# Altium schematic symbol library WE-MK.SchLib: 204 symbols (part 2 of 4)
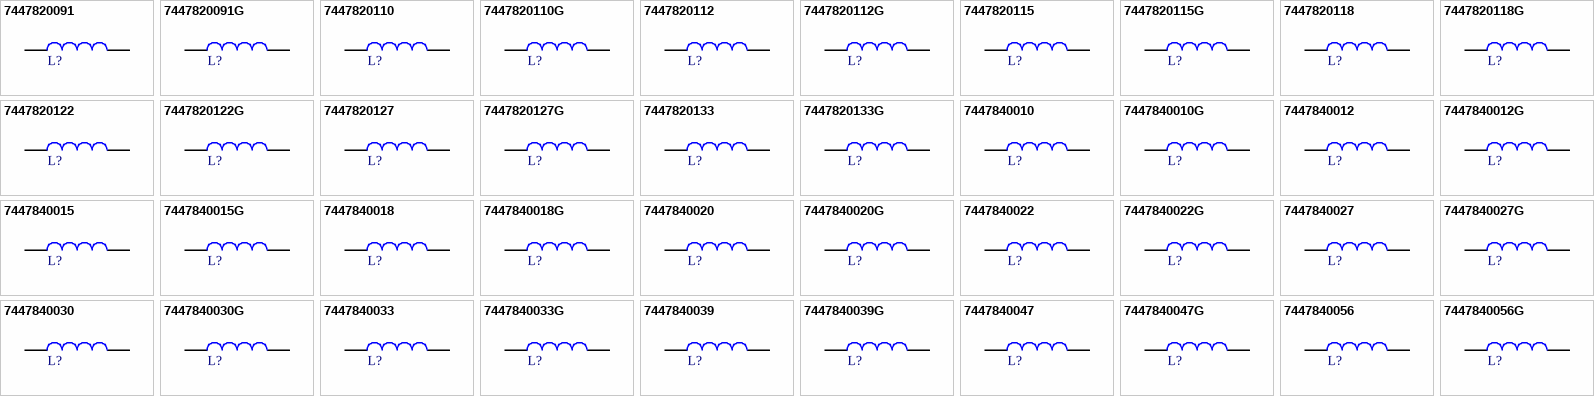
[diagram p6: symbols 7447820091 to 7447840056G]

## 7447820133G
designator L?, comment 33nH  (value not drawn)
WE-MK Multilayer Ceramic SMT Inductor, size 0201, 33nH, 0.11A, 1.5Ohm; Manufacturer Part Number: 7447820133G; Manufacturer: Wurth Elektronik; Case/Size Code: 0201; Inductance Tolerance: +/-2%; Q Factor: 4; Self Resonant Frequency: 1700MHz; Category: RF Inductors; Match Code: WE-MK; ComponentLink1Description: Website Link; ComponentLink1URL: https://www.we-online.com/redexpert/article/7447820133G?ad; ComponentLink2Description: Datasheet Link; ComponentLink2URL: https://www.we-online.com/redexpert/spec/7447820133G?ad; Mount: Surface Mount; Operating Temperature Max: 125°C; Operating Temperature Min: -55°C; Packaging: Tape and Reel; Length: 0.6mm; Width: 0.3mm; Height: 0.3mm; DC Resistance Max: 1.5Ohm; Inductance: 33nH; Rated Current: 0.11A
footprint WE-MK_0201_L0.6W0.3H0.3
simulation model 0201_7447820133G_33n
pins: 1, 2

## 7447840010
designator L?, comment 1nH  (value not drawn)
WE-MK Multilayer Ceramic SMT Inductor, size 0402, 1nH, 0.3A, 0.1Ohm; Manufacturer Part Number: 7447840010; Manufacturer: Wurth Elektronik; Case/Size Code: 0402; Inductance Tolerance: +/-0.3nH; Q Factor: 8; Self Resonant Frequency: 8000MHz; Category: RF Inductors; Match Code: WE-MK; ComponentLink1Description: Website Link; ComponentLink1URL: https://www.we-online.com/redexpert/article/7447840010?ad; ComponentLink2Description: Datasheet Link; ComponentLink2URL: https://www.we-online.com/redexpert/spec/7447840010?ad; Mount: Surface Mount; Operating Temperature Max: 125°C; Operating Temperature Min: -55°C; Packaging: Tape and Reel; Length: 1mm; Width: 0.5mm; Height: 0.5mm; DC Resistance Max: 0.1Ohm; Inductance: 1nH; Rated Current: 0.3A
footprint WE-MK_0402_L1W0.5H0.5
simulation model 0402_7447840010_1n
pins: 1, 2

## 7447840010G
designator L?, comment 1nH  (value not drawn)
WE-MK Multilayer Ceramic SMT Inductor, size 0402, 1nH, 0.3A, 0.1Ohm; Manufacturer Part Number: 7447840010G; Manufacturer: Wurth Elektronik; Case/Size Code: 0402; Inductance Tolerance: +/-0.1nH; Q Factor: 8; Self Resonant Frequency: 8000MHz; Category: RF Inductors; Match Code: WE-MK; ComponentLink1Description: Website Link; ComponentLink1URL: https://www.we-online.com/redexpert/article/7447840010G?ad; ComponentLink2Description: Datasheet Link; ComponentLink2URL: https://www.we-online.com/redexpert/spec/7447840010G?ad; Mount: Surface Mount; Operating Temperature Max: 125°C; Operating Temperature Min: -55°C; Packaging: Tape and Reel; Length: 1mm; Width: 0.5mm; Height: 0.5mm; DC Resistance Max: 0.1Ohm; Inductance: 1nH; Rated Current: 0.3A
footprint WE-MK_0402_L1W0.5H0.5
simulation model 0402_7447840010G_1n
pins: 1, 2

## 7447840012
designator L?, comment 1.2nH  (value not drawn)
WE-MK Multilayer Ceramic SMT Inductor, size 0402, 1.2nH, 0.3A, 0.1Ohm; Manufacturer Part Number: 7447840012; Manufacturer: Wurth Elektronik; Case/Size Code: 0402; Inductance Tolerance: +/-0.3nH; Q Factor: 8; Self Resonant Frequency: 8000MHz; Category: RF Inductors; Match Code: WE-MK; ComponentLink1Description: Website Link; ComponentLink1URL: https://www.we-online.com/redexpert/article/7447840012?ad; ComponentLink2Description: Datasheet Link; ComponentLink2URL: https://www.we-online.com/redexpert/spec/7447840012?ad; Mount: Surface Mount; Operating Temperature Max: 125°C; Operating Temperature Min: -55°C; Packaging: Tape and Reel; Length: 1mm; Width: 0.5mm; Height: 0.5mm; DC Resistance Max: 0.1Ohm; Inductance: 1.2nH; Rated Current: 0.3A
footprint WE-MK_0402_L1W0.5H0.5
simulation model 0402_7447840012_1.2n
pins: 1, 2

## 7447840012G
designator L?, comment 1.2nH  (value not drawn)
WE-MK Multilayer Ceramic SMT Inductor, size 0402, 1.2nH, 0.3A, 0.1Ohm; Manufacturer Part Number: 7447840012G; Manufacturer: Wurth Elektronik; Case/Size Code: 0402; Inductance Tolerance: +/-0.1nH; Q Factor: 8; Self Resonant Frequency: 8000MHz; Category: RF Inductors; Match Code: WE-MK; ComponentLink1Description: Website Link; ComponentLink1URL: https://www.we-online.com/redexpert/article/7447840012G?ad; ComponentLink2Description: Datasheet Link; ComponentLink2URL: https://www.we-online.com/redexpert/spec/7447840012G?ad; Mount: Surface Mount; Operating Temperature Max: 125°C; Operating Temperature Min: -55°C; Packaging: Tape and Reel; Length: 1mm; Width: 0.5mm; Height: 0.5mm; DC Resistance Max: 0.1Ohm; Inductance: 1.2nH; Rated Current: 0.3A
footprint WE-MK_0402_L1W0.5H0.5
simulation model 0402_7447840012G_1.2n
pins: 1, 2

## 7447840015
designator L?, comment 1.5nH  (value not drawn)
WE-MK Multilayer Ceramic SMT Inductor, size 0402, 1.5nH, 0.3A, 0.1Ohm; Manufacturer Part Number: 7447840015; Manufacturer: Wurth Elektronik; Case/Size Code: 0402; Inductance Tolerance: +/-0.3nH; Q Factor: 8; Self Resonant Frequency: 8000MHz; Category: RF Inductors; Match Code: WE-MK; ComponentLink1Description: Website Link; ComponentLink1URL: https://www.we-online.com/redexpert/article/7447840015?ad; ComponentLink2Description: Datasheet Link; ComponentLink2URL: https://www.we-online.com/redexpert/spec/7447840015?ad; Mount: Surface Mount; Operating Temperature Max: 125°C; Operating Temperature Min: -55°C; Packaging: Tape and Reel; Length: 1mm; Width: 0.5mm; Height: 0.5mm; DC Resistance Max: 0.1Ohm; Inductance: 1.5nH; Rated Current: 0.3A
footprint WE-MK_0402_L1W0.5H0.5
simulation model 0402_7447840015_1.5n
pins: 1, 2

## 7447840015G
designator L?, comment 1.5nH  (value not drawn)
WE-MK Multilayer Ceramic SMT Inductor, size 0402, 1.5nH, 0.3A, 0.1Ohm; Manufacturer Part Number: 7447840015G; Manufacturer: Wurth Elektronik; Case/Size Code: 0402; Inductance Tolerance: +/-0.1nH; Q Factor: 8; Self Resonant Frequency: 8000MHz; Category: RF Inductors; Match Code: WE-MK; ComponentLink1Description: Website Link; ComponentLink1URL: https://www.we-online.com/redexpert/article/7447840015G?ad; ComponentLink2Description: Datasheet Link; ComponentLink2URL: https://www.we-online.com/redexpert/spec/7447840015G?ad; Mount: Surface Mount; Operating Temperature Max: 125°C; Operating Temperature Min: -55°C; Packaging: Tape and Reel; Length: 1mm; Width: 0.5mm; Height: 0.5mm; DC Resistance Max: 0.1Ohm; Inductance: 1.5nH; Rated Current: 0.3A
footprint WE-MK_0402_L1W0.5H0.5
simulation model 0402_7447840015G_1.5n
pins: 1, 2

## 7447840018
designator L?, comment 1.8nH  (value not drawn)
WE-MK Multilayer Ceramic SMT Inductor, size 0402, 1.8nH, 0.3A, 0.1Ohm; Manufacturer Part Number: 7447840018; Manufacturer: Wurth Elektronik; Case/Size Code: 0402; Inductance Tolerance: +/-0.3nH; Q Factor: 8; Self Resonant Frequency: 6000MHz; Category: RF Inductors; Match Code: WE-MK; ComponentLink1Description: Website Link; ComponentLink1URL: https://www.we-online.com/redexpert/article/7447840018?ad; ComponentLink2Description: Datasheet Link; ComponentLink2URL: https://www.we-online.com/redexpert/spec/7447840018?ad; Mount: Surface Mount; Operating Temperature Max: 125°C; Operating Temperature Min: -55°C; Packaging: Tape and Reel; Length: 1mm; Width: 0.5mm; Height: 0.5mm; DC Resistance Max: 0.1Ohm; Inductance: 1.8nH; Rated Current: 0.3A
footprint WE-MK_0402_L1W0.5H0.5
simulation model 0402_7447840018_1.8n
pins: 1, 2

## 7447840018G
designator L?, comment 1.8nH  (value not drawn)
WE-MK Multilayer Ceramic SMT Inductor, size 0402, 1.8nH, 0.3A, 0.1Ohm; Manufacturer Part Number: 7447840018G; Manufacturer: Wurth Elektronik; Case/Size Code: 0402; Inductance Tolerance: +/-0.1nH; Q Factor: 8; Self Resonant Frequency: 6000MHz; Category: RF Inductors; Match Code: WE-MK; ComponentLink1Description: Website Link; ComponentLink1URL: https://www.we-online.com/redexpert/article/7447840018G?ad; ComponentLink2Description: Datasheet Link; ComponentLink2URL: https://www.we-online.com/redexpert/spec/7447840018G?ad; Mount: Surface Mount; Operating Temperature Max: 125°C; Operating Temperature Min: -55°C; Packaging: Tape and Reel; Length: 1mm; Width: 0.5mm; Height: 0.5mm; DC Resistance Max: 0.1Ohm; Inductance: 1.8nH; Rated Current: 0.3A
footprint WE-MK_0402_L1W0.5H0.5
simulation model 0402_7447840018G_1.8n
pins: 1, 2

## 7447840020
designator L?, comment 2nH  (value not drawn)
WE-MK Multilayer Ceramic SMT Inductor, size 0402, 2nH, 0.3A, 0.12Ohm; Manufacturer Part Number: 7447840020; Manufacturer: Wurth Elektronik; Case/Size Code: 0402; Inductance Tolerance: +/-0.3nH; Q Factor: 8; Self Resonant Frequency: 6000MHz; Category: RF Inductors; Match Code: WE-MK; ComponentLink1Description: Website Link; ComponentLink1URL: https://www.we-online.com/redexpert/article/7447840020?ad; ComponentLink2Description: Datasheet Link; ComponentLink2URL: https://www.we-online.com/redexpert/spec/7447840020?ad; Mount: Surface Mount; Operating Temperature Max: 125°C; Operating Temperature Min: -55°C; Packaging: Tape and Reel; Length: 1mm; Width: 0.5mm; Height: 0.5mm; DC Resistance Max: 0.12Ohm; Inductance: 2nH; Rated Current: 0.3A
footprint WE-MK_0402_L1W0.5H0.5
simulation model 0402_7447840020_2n
pins: 1, 2

## 7447840020G
designator L?, comment 2nH  (value not drawn)
WE-MK Multilayer Ceramic SMT Inductor, size 0402, 2nH, 0.3A, 0.12Ohm; Manufacturer Part Number: 7447840020G; Manufacturer: Wurth Elektronik; Case/Size Code: 0402; Inductance Tolerance: +/-0.1nH; Q Factor: 8; Self Resonant Frequency: 6000MHz; Category: RF Inductors; Match Code: WE-MK; ComponentLink1Description: Website Link; ComponentLink1URL: https://www.we-online.com/redexpert/article/7447840020G?ad; ComponentLink2Description: Datasheet Link; ComponentLink2URL: https://www.we-online.com/redexpert/spec/7447840020G?ad; Mount: Surface Mount; Operating Temperature Max: 125°C; Operating Temperature Min: -55°C; Packaging: Tape and Reel; Length: 1mm; Width: 0.5mm; Height: 0.5mm; DC Resistance Max: 0.12Ohm; Inductance: 2nH; Rated Current: 0.3A
footprint WE-MK_0402_L1W0.5H0.5
simulation model 0402_7447840020G_2n
pins: 1, 2

## 7447840022
designator L?, comment 2.2nH  (value not drawn)
WE-MK Multilayer Ceramic SMT Inductor, size 0402, 2.2nH, 0.3A, 0.15Ohm; Manufacturer Part Number: 7447840022; Manufacturer: Wurth Elektronik; Case/Size Code: 0402; Inductance Tolerance: +/-0.3nH; Q Factor: 8; Self Resonant Frequency: 6000MHz; Category: RF Inductors; Match Code: WE-MK; ComponentLink1Description: Website Link; ComponentLink1URL: https://www.we-online.com/redexpert/article/7447840022?ad; ComponentLink2Description: Datasheet Link; ComponentLink2URL: https://www.we-online.com/redexpert/spec/7447840022?ad; Mount: Surface Mount; Operating Temperature Max: 125°C; Operating Temperature Min: -55°C; Packaging: Tape and Reel; Length: 1mm; Width: 0.5mm; Height: 0.5mm; DC Resistance Max: 0.15Ohm; Inductance: 2.2nH; Rated Current: 0.3A
footprint WE-MK_0402_L1W0.5H0.5
simulation model 0402_7447840022_2.2n
pins: 1, 2

## 7447840022G
designator L?, comment 2.2nH  (value not drawn)
WE-MK Multilayer Ceramic SMT Inductor, size 0402, 2.2nH, 0.3A, 0.15Ohm; Manufacturer Part Number: 7447840022G; Manufacturer: Wurth Elektronik; Case/Size Code: 0402; Inductance Tolerance: +/-0.1nH; Q Factor: 8; Self Resonant Frequency: 6000MHz; Category: RF Inductors; Match Code: WE-MK; ComponentLink1Description: Website Link; ComponentLink1URL: https://www.we-online.com/redexpert/article/7447840022G?ad; ComponentLink2Description: Datasheet Link; ComponentLink2URL: https://www.we-online.com/redexpert/spec/7447840022G?ad; Mount: Surface Mount; Operating Temperature Max: 125°C; Operating Temperature Min: -55°C; Packaging: Tape and Reel; Length: 1mm; Width: 0.5mm; Height: 0.5mm; DC Resistance Max: 0.15Ohm; Inductance: 2.2nH; Rated Current: 0.3A
footprint WE-MK_0402_L1W0.5H0.5
simulation model 0402_7447840022G_2.2n
pins: 1, 2

## 7447840027
designator L?, comment 2.7nH  (value not drawn)
WE-MK Multilayer Ceramic SMT Inductor, size 0402, 2.7nH, 0.3A, 0.17Ohm; Manufacturer Part Number: 7447840027; Manufacturer: Wurth Elektronik; Case/Size Code: 0402; Inductance Tolerance: +/-0.3nH; Q Factor: 8; Self Resonant Frequency: 6000MHz; Category: RF Inductors; Match Code: WE-MK; ComponentLink1Description: Website Link; ComponentLink1URL: https://www.we-online.com/redexpert/article/7447840027?ad; ComponentLink2Description: Datasheet Link; ComponentLink2URL: https://www.we-online.com/redexpert/spec/7447840027?ad; Mount: Surface Mount; Operating Temperature Max: 125°C; Operating Temperature Min: -55°C; Packaging: Tape and Reel; Length: 1mm; Width: 0.5mm; Height: 0.5mm; DC Resistance Max: 0.17Ohm; Inductance: 2.7nH; Rated Current: 0.3A
footprint WE-MK_0402_L1W0.5H0.5
simulation model 0402_7447840027_2.7n
pins: 1, 2

## 7447840027G
designator L?, comment 2.7nH  (value not drawn)
WE-MK Multilayer Ceramic SMT Inductor, size 0402, 2.7nH, 0.3A, 0.17Ohm; Manufacturer Part Number: 7447840027G; Manufacturer: Wurth Elektronik; Case/Size Code: 0402; Inductance Tolerance: +/-0.1nH; Q Factor: 8; Self Resonant Frequency: 6000MHz; Category: RF Inductors; Match Code: WE-MK; ComponentLink1Description: Website Link; ComponentLink1URL: https://www.we-online.com/redexpert/article/7447840027G?ad; ComponentLink2Description: Datasheet Link; ComponentLink2URL: https://www.we-online.com/redexpert/spec/7447840027G?ad; Mount: Surface Mount; Operating Temperature Max: 125°C; Operating Temperature Min: -55°C; Packaging: Tape and Reel; Length: 1mm; Width: 0.5mm; Height: 0.5mm; DC Resistance Max: 0.17Ohm; Inductance: 2.7nH; Rated Current: 0.3A
footprint WE-MK_0402_L1W0.5H0.5
simulation model 0402_7447840027G_2.7n
pins: 1, 2

## 7447840030
designator L?, comment 3nH  (value not drawn)
WE-MK Multilayer Ceramic SMT Inductor, size 0402, 3nH, 0.3A, 0.18Ohm; Manufacturer Part Number: 7447840030; Manufacturer: Wurth Elektronik; Case/Size Code: 0402; Inductance Tolerance: +/-0.3nH; Q Factor: 8; Self Resonant Frequency: 6000MHz; Category: RF Inductors; Match Code: WE-MK; ComponentLink1Description: Website Link; ComponentLink1URL: https://www.we-online.com/redexpert/article/7447840030?ad; ComponentLink2Description: Datasheet Link; ComponentLink2URL: https://www.we-online.com/redexpert/spec/7447840030?ad; Mount: Surface Mount; Operating Temperature Max: 125°C; Operating Temperature Min: -55°C; Packaging: Tape and Reel; Length: 1mm; Width: 0.5mm; Height: 0.5mm; DC Resistance Max: 0.18Ohm; Inductance: 3nH; Rated Current: 0.3A
footprint WE-MK_0402_L1W0.5H0.5
simulation model 0402_7447840030_3n
pins: 1, 2

## 7447840030G
designator L?, comment 3nH  (value not drawn)
WE-MK Multilayer Ceramic SMT Inductor, size 0402, 3nH, 0.3A, 0.18Ohm; Manufacturer Part Number: 7447840030G; Manufacturer: Wurth Elektronik; Case/Size Code: 0402; Inductance Tolerance: +/-0.1nH; Q Factor: 8; Self Resonant Frequency: 6000MHz; Category: RF Inductors; Match Code: WE-MK; ComponentLink1Description: Website Link; ComponentLink1URL: https://www.we-online.com/redexpert/article/7447840030G?ad; ComponentLink2Description: Datasheet Link; ComponentLink2URL: https://www.we-online.com/redexpert/spec/7447840030G?ad; Mount: Surface Mount; Operating Temperature Max: 125°C; Operating Temperature Min: -55°C; Packaging: Tape and Reel; Length: 1mm; Width: 0.5mm; Height: 0.5mm; DC Resistance Max: 0.18Ohm; Inductance: 3nH; Rated Current: 0.3A
footprint WE-MK_0402_L1W0.5H0.5
simulation model 0402_7447840030G_3n
pins: 1, 2

## 7447840033
designator L?, comment 3.3nH  (value not drawn)
WE-MK Multilayer Ceramic SMT Inductor, size 0402, 3.3nH, 0.3A, 0.19Ohm; Manufacturer Part Number: 7447840033; Manufacturer: Wurth Elektronik; Case/Size Code: 0402; Inductance Tolerance: +/-0.3nH; Q Factor: 8; Self Resonant Frequency: 6000MHz; Category: RF Inductors; Match Code: WE-MK; ComponentLink1Description: Website Link; ComponentLink1URL: https://www.we-online.com/redexpert/article/7447840033?ad; ComponentLink2Description: Datasheet Link; ComponentLink2URL: https://www.we-online.com/redexpert/spec/7447840033?ad; Mount: Surface Mount; Operating Temperature Max: 125°C; Operating Temperature Min: -55°C; Packaging: Tape and Reel; Length: 1mm; Width: 0.5mm; Height: 0.5mm; DC Resistance Max: 0.19Ohm; Inductance: 3.3nH; Rated Current: 0.3A
footprint WE-MK_0402_L1W0.5H0.5
simulation model 0402_7447840033_3.3n
pins: 1, 2

## 7447840033G
designator L?, comment 3.3nH  (value not drawn)
WE-MK Multilayer Ceramic SMT Inductor, size 0402, 3.3nH, 0.3A, 0.19Ohm; Manufacturer Part Number: 7447840033G; Manufacturer: Wurth Elektronik; Case/Size Code: 0402; Inductance Tolerance: +/-0.1nH; Q Factor: 8; Self Resonant Frequency: 6000MHz; Category: RF Inductors; Match Code: WE-MK; ComponentLink1Description: Website Link; ComponentLink1URL: https://www.we-online.com/redexpert/article/7447840033G?ad; ComponentLink2Description: Datasheet Link; ComponentLink2URL: https://www.we-online.com/redexpert/spec/7447840033G?ad; Mount: Surface Mount; Operating Temperature Max: 125°C; Operating Temperature Min: -55°C; Packaging: Tape and Reel; Length: 1mm; Width: 0.5mm; Height: 0.5mm; DC Resistance Max: 0.19Ohm; Inductance: 3.3nH; Rated Current: 0.3A
footprint WE-MK_0402_L1W0.5H0.5
simulation model 0402_7447840033G_3.3n
pins: 1, 2

## 7447840039
designator L?, comment 3.9nH  (value not drawn)
WE-MK Multilayer Ceramic SMT Inductor, size 0402, 3.9nH, 0.3A, 0.19Ohm; Manufacturer Part Number: 7447840039; Manufacturer: Wurth Elektronik; Case/Size Code: 0402; Inductance Tolerance: +/-0.3nH; Q Factor: 8; Self Resonant Frequency: 6000MHz; Category: RF Inductors; Match Code: WE-MK; ComponentLink1Description: Website Link; ComponentLink1URL: https://www.we-online.com/redexpert/article/7447840039?ad; ComponentLink2Description: Datasheet Link; ComponentLink2URL: https://www.we-online.com/redexpert/spec/7447840039?ad; Mount: Surface Mount; Operating Temperature Max: 125°C; Operating Temperature Min: -55°C; Packaging: Tape and Reel; Length: 1mm; Width: 0.5mm; Height: 0.5mm; DC Resistance Max: 0.19Ohm; Inductance: 3.9nH; Rated Current: 0.3A
footprint WE-MK_0402_L1W0.5H0.5
simulation model 0402_7447840039_3.9n
pins: 1, 2

## 7447840039G
designator L?, comment 3.9nH  (value not drawn)
WE-MK Multilayer Ceramic SMT Inductor, size 0402, 3.9nH, 0.3A, 0.19Ohm; Manufacturer Part Number: 7447840039G; Manufacturer: Wurth Elektronik; Case/Size Code: 0402; Inductance Tolerance: +/-0.1nH; Q Factor: 8; Self Resonant Frequency: 6000MHz; Category: RF Inductors; Match Code: WE-MK; ComponentLink1Description: Website Link; ComponentLink1URL: https://www.we-online.com/redexpert/article/7447840039G?ad; ComponentLink2Description: Datasheet Link; ComponentLink2URL: https://www.we-online.com/redexpert/spec/7447840039G?ad; Mount: Surface Mount; Operating Temperature Max: 125°C; Operating Temperature Min: -55°C; Packaging: Tape and Reel; Length: 1mm; Width: 0.5mm; Height: 0.5mm; DC Resistance Max: 0.19Ohm; Inductance: 3.9nH; Rated Current: 0.3A
footprint WE-MK_0402_L1W0.5H0.5
simulation model 0402_7447840039G_3.9n
pins: 1, 2

## 7447840047
designator L?, comment 4.7nH  (value not drawn)
WE-MK Multilayer Ceramic SMT Inductor, size 0402, 4.7nH, 0.3A, 0.23Ohm; Manufacturer Part Number: 7447840047; Manufacturer: Wurth Elektronik; Case/Size Code: 0402; Inductance Tolerance: +/-0.3nH; Q Factor: 8; Self Resonant Frequency: 6000MHz; Category: RF Inductors; Match Code: WE-MK; ComponentLink1Description: Website Link; ComponentLink1URL: https://www.we-online.com/redexpert/article/7447840047?ad; ComponentLink2Description: Datasheet Link; ComponentLink2URL: https://www.we-online.com/redexpert/spec/7447840047?ad; Mount: Surface Mount; Operating Temperature Max: 125°C; Operating Temperature Min: -55°C; Packaging: Tape and Reel; Length: 1mm; Width: 0.5mm; Height: 0.5mm; DC Resistance Max: 0.23Ohm; Inductance: 4.7nH; Rated Current: 0.3A
footprint WE-MK_0402_L1W0.5H0.5
simulation model 0402_7447840047_4.7n
pins: 1, 2

## 7447840047G
designator L?, comment 4.7nH  (value not drawn)
WE-MK Multilayer Ceramic SMT Inductor, size 0402, 4.7nH, 0.3A, 0.23Ohm; Manufacturer Part Number: 7447840047G; Manufacturer: Wurth Elektronik; Case/Size Code: 0402; Inductance Tolerance: +/-0.1nH; Q Factor: 8; Self Resonant Frequency: 6000MHz; Category: RF Inductors; Match Code: WE-MK; ComponentLink1Description: Website Link; ComponentLink1URL: https://www.we-online.com/redexpert/article/7447840047G?ad; ComponentLink2Description: Datasheet Link; ComponentLink2URL: https://www.we-online.com/redexpert/spec/7447840047G?ad; Mount: Surface Mount; Operating Temperature Max: 125°C; Operating Temperature Min: -55°C; Packaging: Tape and Reel; Length: 1mm; Width: 0.5mm; Height: 0.5mm; DC Resistance Max: 0.23Ohm; Inductance: 4.7nH; Rated Current: 0.3A
footprint WE-MK_0402_L1W0.5H0.5
simulation model 0402_7447840047G_4.7n
pins: 1, 2

## 7447840056
designator L?, comment 5.6nH  (value not drawn)
WE-MK Multilayer Ceramic SMT Inductor, size 0402, 5.6nH, 0.3A, 0.26Ohm; Manufacturer Part Number: 7447840056; Manufacturer: Wurth Elektronik; Case/Size Code: 0402; Inductance Tolerance: +/-0.3nH; Q Factor: 8; Self Resonant Frequency: 5300MHz; Category: RF Inductors; Match Code: WE-MK; ComponentLink1Description: Website Link; ComponentLink1URL: https://www.we-online.com/redexpert/article/7447840056?ad; ComponentLink2Description: Datasheet Link; ComponentLink2URL: https://www.we-online.com/redexpert/spec/7447840056?ad; Mount: Surface Mount; Operating Temperature Max: 125°C; Operating Temperature Min: -55°C; Packaging: Tape and Reel; Length: 1mm; Width: 0.5mm; Height: 0.5mm; DC Resistance Max: 0.26Ohm; Inductance: 5.6nH; Rated Current: 0.3A
footprint WE-MK_0402_L1W0.5H0.5
simulation model 0402_7447840056_5.6n
pins: 1, 2

## 7447840056G
designator L?, comment 5.6nH  (value not drawn)
WE-MK Multilayer Ceramic SMT Inductor, size 0402, 5.6nH, 0.3A, 0.26Ohm; Manufacturer Part Number: 7447840056G; Manufacturer: Wurth Elektronik; Case/Size Code: 0402; Inductance Tolerance: +/-0.1nH; Q Factor: 8; Self Resonant Frequency: 5300MHz; Category: RF Inductors; Match Code: WE-MK; ComponentLink1Description: Website Link; ComponentLink1URL: https://www.we-online.com/redexpert/article/7447840056G?ad; ComponentLink2Description: Datasheet Link; ComponentLink2URL: https://www.we-online.com/redexpert/spec/7447840056G?ad; Mount: Surface Mount; Operating Temperature Max: 125°C; Operating Temperature Min: -55°C; Packaging: Tape and Reel; Length: 1mm; Width: 0.5mm; Height: 0.5mm; DC Resistance Max: 0.26Ohm; Inductance: 5.6nH; Rated Current: 0.3A
footprint WE-MK_0402_L1W0.5H0.5
simulation model 0402_7447840056G_5.6n
pins: 1, 2

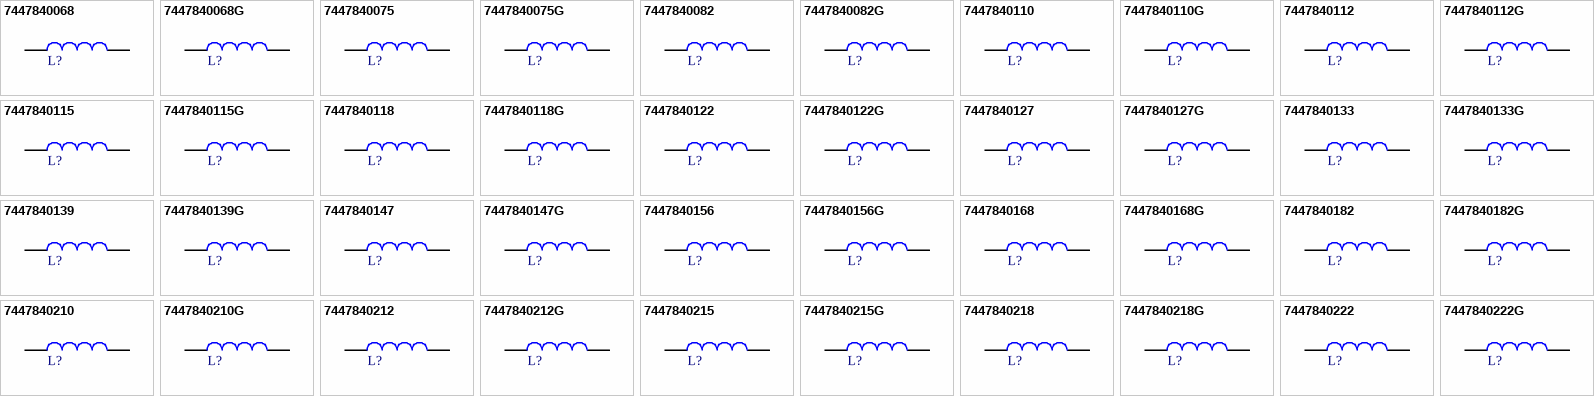
[diagram p2: symbols 7447840068 to 7447840222G]

## 7447840068
designator L?, comment 6.8nH  (value not drawn)
WE-MK Multilayer Ceramic SMT Inductor, size 0402, 6.8nH, 0.3A, 0.29Ohm; Manufacturer Part Number: 7447840068; Manufacturer: Wurth Elektronik; Case/Size Code: 0402; Inductance Tolerance: +/-5%; Q Factor: 8; Self Resonant Frequency: 4200MHz; Category: RF Inductors; Match Code: WE-MK; ComponentLink1Description: Website Link; ComponentLink1URL: https://www.we-online.com/redexpert/article/7447840068?ad; ComponentLink2Description: Datasheet Link; ComponentLink2URL: https://www.we-online.com/redexpert/spec/7447840068?ad; Mount: Surface Mount; Operating Temperature Max: 125°C; Operating Temperature Min: -55°C; Packaging: Tape and Reel; Length: 1mm; Width: 0.5mm; Height: 0.5mm; DC Resistance Max: 0.29Ohm; Inductance: 6.8nH; Rated Current: 0.3A
footprint WE-MK_0402_L1W0.5H0.5
simulation model 0402_7447840068_6.8n
pins: 1, 2

## 7447840068G
designator L?, comment 6.8nH  (value not drawn)
WE-MK Multilayer Ceramic SMT Inductor, size 0402, 6.8nH, 0.3A, 0.29Ohm; Manufacturer Part Number: 7447840068G; Manufacturer: Wurth Elektronik; Case/Size Code: 0402; Inductance Tolerance: +/-2%; Q Factor: 8; Self Resonant Frequency: 4200MHz; Category: RF Inductors; Match Code: WE-MK; ComponentLink1Description: Website Link; ComponentLink1URL: https://www.we-online.com/redexpert/article/7447840068G?ad; ComponentLink2Description: Datasheet Link; ComponentLink2URL: https://www.we-online.com/redexpert/spec/7447840068G?ad; Mount: Surface Mount; Operating Temperature Max: 125°C; Operating Temperature Min: -55°C; Packaging: Tape and Reel; Length: 1mm; Width: 0.5mm; Height: 0.5mm; DC Resistance Max: 0.29Ohm; Inductance: 6.8nH; Rated Current: 0.3A
footprint WE-MK_0402_L1W0.5H0.5
simulation model 0402_7447840068G_6.8n
pins: 1, 2

## 7447840075
designator L?, comment 7.5nH  (value not drawn)
WE-MK Multilayer Ceramic SMT Inductor, size 0402, 7.5nH, 0.3A, 0.31Ohm; Manufacturer Part Number: 7447840075; Manufacturer: Wurth Elektronik; Case/Size Code: 0402; Inductance Tolerance: +/-5%; Q Factor: 8; Self Resonant Frequency: 4200MHz; Category: RF Inductors; Match Code: WE-MK; ComponentLink1Description: Website Link; ComponentLink1URL: https://www.we-online.com/redexpert/article/7447840075?ad; ComponentLink2Description: Datasheet Link; ComponentLink2URL: https://www.we-online.com/redexpert/spec/7447840075?ad; Mount: Surface Mount; Operating Temperature Max: 125°C; Operating Temperature Min: -55°C; Packaging: Tape and Reel; Length: 1mm; Width: 0.5mm; Height: 0.5mm; DC Resistance Max: 0.31Ohm; Inductance: 7.5nH; Rated Current: 0.3A
footprint WE-MK_0402_L1W0.5H0.5
simulation model 0402_7447840075_7.5n
pins: 1, 2

## 7447840075G
designator L?, comment 7.5nH  (value not drawn)
WE-MK Multilayer Ceramic SMT Inductor, size 0402, 7.5nH, 0.3A, 0.31Ohm; Manufacturer Part Number: 7447840075G; Manufacturer: Wurth Elektronik; Case/Size Code: 0402; Inductance Tolerance: +/-2%; Q Factor: 8; Self Resonant Frequency: 4200MHz; Category: RF Inductors; Match Code: WE-MK; ComponentLink1Description: Website Link; ComponentLink1URL: https://www.we-online.com/redexpert/article/7447840075G?ad; ComponentLink2Description: Datasheet Link; ComponentLink2URL: https://www.we-online.com/redexpert/spec/7447840075G?ad; Mount: Surface Mount; Operating Temperature Max: 125°C; Operating Temperature Min: -55°C; Packaging: Tape and Reel; Length: 1mm; Width: 0.5mm; Height: 0.5mm; DC Resistance Max: 0.31Ohm; Inductance: 7.5nH; Rated Current: 0.3A
footprint WE-MK_0402_L1W0.5H0.5
simulation model 0402_7447840075G_7.5n
pins: 1, 2

## 7447840082
designator L?, comment 8.2nH  (value not drawn)
WE-MK Multilayer Ceramic SMT Inductor, size 0402, 8.2nH, 0.3A, 0.33Ohm; Manufacturer Part Number: 7447840082; Manufacturer: Wurth Elektronik; Case/Size Code: 0402; Inductance Tolerance: +/-5%; Q Factor: 8; Self Resonant Frequency: 3600MHz; Category: RF Inductors; Match Code: WE-MK; ComponentLink1Description: Website Link; ComponentLink1URL: https://www.we-online.com/redexpert/article/7447840082?ad; ComponentLink2Description: Datasheet Link; ComponentLink2URL: https://www.we-online.com/redexpert/spec/7447840082?ad; Mount: Surface Mount; Operating Temperature Max: 125°C; Operating Temperature Min: -55°C; Packaging: Tape and Reel; Length: 1mm; Width: 0.5mm; Height: 0.5mm; DC Resistance Max: 0.33Ohm; Inductance: 8.2nH; Rated Current: 0.3A
footprint WE-MK_0402_L1W0.5H0.5
simulation model 0402_7447840082_8.2n
pins: 1, 2

## 7447840082G
designator L?, comment 8.2nH  (value not drawn)
WE-MK Multilayer Ceramic SMT Inductor, size 0402, 8.2nH, 0.3A, 0.33Ohm; Manufacturer Part Number: 7447840082G; Manufacturer: Wurth Elektronik; Case/Size Code: 0402; Inductance Tolerance: +/-2%; Q Factor: 8; Self Resonant Frequency: 3600MHz; Category: RF Inductors; Match Code: WE-MK; ComponentLink1Description: Website Link; ComponentLink1URL: https://www.we-online.com/redexpert/article/7447840082G?ad; ComponentLink2Description: Datasheet Link; ComponentLink2URL: https://www.we-online.com/redexpert/spec/7447840082G?ad; Mount: Surface Mount; Operating Temperature Max: 125°C; Operating Temperature Min: -55°C; Packaging: Tape and Reel; Length: 1mm; Width: 0.5mm; Height: 0.5mm; DC Resistance Max: 0.33Ohm; Inductance: 8.2nH; Rated Current: 0.3A
footprint WE-MK_0402_L1W0.5H0.5
simulation model 0402_7447840082G_8.2n
pins: 1, 2

## 7447840110
designator L?, comment 10nH  (value not drawn)
WE-MK Multilayer Ceramic SMT Inductor, size 0402, 10nH, 0.3A, 0.35Ohm; Manufacturer Part Number: 7447840110; Manufacturer: Wurth Elektronik; Case/Size Code: 0402; Inductance Tolerance: +/-5%; Q Factor: 8; Self Resonant Frequency: 3200MHz; Category: RF Inductors; Match Code: WE-MK; ComponentLink1Description: Website Link; ComponentLink1URL: https://www.we-online.com/redexpert/article/7447840110?ad; ComponentLink2Description: Datasheet Link; ComponentLink2URL: https://www.we-online.com/redexpert/spec/7447840110?ad; Mount: Surface Mount; Operating Temperature Max: 125°C; Operating Temperature Min: -55°C; Packaging: Tape and Reel; Length: 1mm; Width: 0.5mm; Height: 0.5mm; DC Resistance Max: 0.35Ohm; Inductance: 10nH; Rated Current: 0.3A
footprint WE-MK_0402_L1W0.5H0.5
simulation model 0402_7447840110_10n
pins: 1, 2

## 7447840110G
designator L?, comment 10nH  (value not drawn)
WE-MK Multilayer Ceramic SMT Inductor, size 0402, 10nH, 0.3A, 0.35Ohm; Manufacturer Part Number: 7447840110G; Manufacturer: Wurth Elektronik; Case/Size Code: 0402; Inductance Tolerance: +/-2%; Q Factor: 8; Self Resonant Frequency: 3200MHz; Category: RF Inductors; Match Code: WE-MK; ComponentLink1Description: Website Link; ComponentLink1URL: https://www.we-online.com/redexpert/article/7447840110G?ad; ComponentLink2Description: Datasheet Link; ComponentLink2URL: https://www.we-online.com/redexpert/spec/7447840110G?ad; Mount: Surface Mount; Operating Temperature Max: 125°C; Operating Temperature Min: -55°C; Packaging: Tape and Reel; Length: 1mm; Width: 0.5mm; Height: 0.5mm; DC Resistance Max: 0.35Ohm; Inductance: 10nH; Rated Current: 0.3A
footprint WE-MK_0402_L1W0.5H0.5
simulation model 0402_7447840110G_10n
pins: 1, 2

## 7447840112
designator L?, comment 12nH  (value not drawn)
WE-MK Multilayer Ceramic SMT Inductor, size 0402, 12nH, 0.3A, 0.41Ohm; Manufacturer Part Number: 7447840112; Manufacturer: Wurth Elektronik; Case/Size Code: 0402; Inductance Tolerance: +/-5%; Q Factor: 8; Self Resonant Frequency: 2800MHz; Category: RF Inductors; Match Code: WE-MK; ComponentLink1Description: Website Link; ComponentLink1URL: https://www.we-online.com/redexpert/article/7447840112?ad; ComponentLink2Description: Datasheet Link; ComponentLink2URL: https://www.we-online.com/redexpert/spec/7447840112?ad; Mount: Surface Mount; Operating Temperature Max: 125°C; Operating Temperature Min: -55°C; Packaging: Tape and Reel; Length: 1mm; Width: 0.5mm; Height: 0.5mm; DC Resistance Max: 0.41Ohm; Inductance: 12nH; Rated Current: 0.3A
footprint WE-MK_0402_L1W0.5H0.5
simulation model 0402_7447840112_12n
pins: 1, 2

## 7447840112G
designator L?, comment 12nH  (value not drawn)
WE-MK Multilayer Ceramic SMT Inductor, size 0402, 12nH, 0.3A, 0.41Ohm; Manufacturer Part Number: 7447840112G; Manufacturer: Wurth Elektronik; Case/Size Code: 0402; Inductance Tolerance: +/-2%; Q Factor: 8; Self Resonant Frequency: 2800MHz; Category: RF Inductors; Match Code: WE-MK; ComponentLink1Description: Website Link; ComponentLink1URL: https://www.we-online.com/redexpert/article/7447840112G?ad; ComponentLink2Description: Datasheet Link; ComponentLink2URL: https://www.we-online.com/redexpert/spec/7447840112G?ad; Mount: Surface Mount; Operating Temperature Max: 125°C; Operating Temperature Min: -55°C; Packaging: Tape and Reel; Length: 1mm; Width: 0.5mm; Height: 0.5mm; DC Resistance Max: 0.41Ohm; Inductance: 12nH; Rated Current: 0.3A
footprint WE-MK_0402_L1W0.5H0.5
simulation model 0402_7447840112G_12n
pins: 1, 2

## 7447840115
designator L?, comment 15nH  (value not drawn)
WE-MK Multilayer Ceramic SMT Inductor, size 0402, 15nH, 0.3A, 0.46Ohm; Manufacturer Part Number: 7447840115; Manufacturer: Wurth Elektronik; Case/Size Code: 0402; Inductance Tolerance: +/-5%; Q Factor: 8; Self Resonant Frequency: 2300MHz; Category: RF Inductors; Match Code: WE-MK; ComponentLink1Description: Website Link; ComponentLink1URL: https://www.we-online.com/redexpert/article/7447840115?ad; ComponentLink2Description: Datasheet Link; ComponentLink2URL: https://www.we-online.com/redexpert/spec/7447840115?ad; Mount: Surface Mount; Operating Temperature Max: 125°C; Operating Temperature Min: -55°C; Packaging: Tape and Reel; Length: 1mm; Width: 0.5mm; Height: 0.5mm; DC Resistance Max: 0.46Ohm; Inductance: 15nH; Rated Current: 0.3A
footprint WE-MK_0402_L1W0.5H0.5
simulation model 0402_7447840115_15n
pins: 1, 2

## 7447840115G
designator L?, comment 15nH  (value not drawn)
WE-MK Multilayer Ceramic SMT Inductor, size 0402, 15nH, 0.3A, 0.46Ohm; Manufacturer Part Number: 7447840115G; Manufacturer: Wurth Elektronik; Case/Size Code: 0402; Inductance Tolerance: +/-2%; Q Factor: 8; Self Resonant Frequency: 2300MHz; Category: RF Inductors; Match Code: WE-MK; ComponentLink1Description: Website Link; ComponentLink1URL: https://www.we-online.com/redexpert/article/7447840115G?ad; ComponentLink2Description: Datasheet Link; ComponentLink2URL: https://www.we-online.com/redexpert/spec/7447840115G?ad; Mount: Surface Mount; Operating Temperature Max: 125°C; Operating Temperature Min: -55°C; Packaging: Tape and Reel; Length: 1mm; Width: 0.5mm; Height: 0.5mm; DC Resistance Max: 0.46Ohm; Inductance: 15nH; Rated Current: 0.3A
footprint WE-MK_0402_L1W0.5H0.5
simulation model 0402_7447840115G_15n
pins: 1, 2

## 7447840118
designator L?, comment 18nH  (value not drawn)
WE-MK Multilayer Ceramic SMT Inductor, size 0402, 18nH, 0.3A, 0.51Ohm; Manufacturer Part Number: 7447840118; Manufacturer: Wurth Elektronik; Case/Size Code: 0402; Inductance Tolerance: +/-5%; Q Factor: 8; Self Resonant Frequency: 2100MHz; Category: RF Inductors; Match Code: WE-MK; ComponentLink1Description: Website Link; ComponentLink1URL: https://www.we-online.com/redexpert/article/7447840118?ad; ComponentLink2Description: Datasheet Link; ComponentLink2URL: https://www.we-online.com/redexpert/spec/7447840118?ad; Mount: Surface Mount; Operating Temperature Max: 125°C; Operating Temperature Min: -55°C; Packaging: Tape and Reel; Length: 1mm; Width: 0.5mm; Height: 0.5mm; DC Resistance Max: 0.51Ohm; Inductance: 18nH; Rated Current: 0.3A
footprint WE-MK_0402_L1W0.5H0.5
simulation model 0402_7447840118_18n
pins: 1, 2

## 7447840118G
designator L?, comment 18nH  (value not drawn)
WE-MK Multilayer Ceramic SMT Inductor, size 0402, 18nH, 0.3A, 0.51Ohm; Manufacturer Part Number: 7447840118G; Manufacturer: Wurth Elektronik; Case/Size Code: 0402; Inductance Tolerance: +/-2%; Q Factor: 8; Self Resonant Frequency: 2100MHz; Category: RF Inductors; Match Code: WE-MK; ComponentLink1Description: Website Link; ComponentLink1URL: https://www.we-online.com/redexpert/article/7447840118G?ad; ComponentLink2Description: Datasheet Link; ComponentLink2URL: https://www.we-online.com/redexpert/spec/7447840118G?ad; Mount: Surface Mount; Operating Temperature Max: 125°C; Operating Temperature Min: -55°C; Packaging: Tape and Reel; Length: 1mm; Width: 0.5mm; Height: 0.5mm; DC Resistance Max: 0.51Ohm; Inductance: 18nH; Rated Current: 0.3A
footprint WE-MK_0402_L1W0.5H0.5
simulation model 0402_7447840118G_18n
pins: 1, 2

## 7447840122
designator L?, comment 22nH  (value not drawn)
WE-MK Multilayer Ceramic SMT Inductor, size 0402, 22nH, 0.3A, 0.58Ohm; Manufacturer Part Number: 7447840122; Manufacturer: Wurth Elektronik; Case/Size Code: 0402; Inductance Tolerance: +/-5%; Q Factor: 8; Self Resonant Frequency: 1800MHz; Category: RF Inductors; Match Code: WE-MK; ComponentLink1Description: Website Link; ComponentLink1URL: https://www.we-online.com/redexpert/article/7447840122?ad; ComponentLink2Description: Datasheet Link; ComponentLink2URL: https://www.we-online.com/redexpert/spec/7447840122?ad; Mount: Surface Mount; Operating Temperature Max: 125°C; Operating Temperature Min: -55°C; Packaging: Tape and Reel; Length: 1mm; Width: 0.5mm; Height: 0.5mm; DC Resistance Max: 0.58Ohm; Inductance: 22nH; Rated Current: 0.3A
footprint WE-MK_0402_L1W0.5H0.5
simulation model 0402_7447840122_22n
pins: 1, 2

## 7447840122G
designator L?, comment 22nH  (value not drawn)
WE-MK Multilayer Ceramic SMT Inductor, size 0402, 22nH, 0.3A, 0.58Ohm; Manufacturer Part Number: 7447840122G; Manufacturer: Wurth Elektronik; Case/Size Code: 0402; Inductance Tolerance: +/-2%; Q Factor: 8; Self Resonant Frequency: 1800MHz; Category: RF Inductors; Match Code: WE-MK; ComponentLink1Description: Website Link; ComponentLink1URL: https://www.we-online.com/redexpert/article/7447840122G?ad; ComponentLink2Description: Datasheet Link; ComponentLink2URL: https://www.we-online.com/redexpert/spec/7447840122G?ad; Mount: Surface Mount; Operating Temperature Max: 125°C; Operating Temperature Min: -55°C; Packaging: Tape and Reel; Length: 1mm; Width: 0.5mm; Height: 0.5mm; DC Resistance Max: 0.58Ohm; Inductance: 22nH; Rated Current: 0.3A
footprint WE-MK_0402_L1W0.5H0.5
simulation model 0402_7447840122G_22n
pins: 1, 2

## 7447840127
designator L?, comment 27nH  (value not drawn)
WE-MK Multilayer Ceramic SMT Inductor, size 0402, 27nH, 0.3A, 0.67Ohm; Manufacturer Part Number: 7447840127; Manufacturer: Wurth Elektronik; Case/Size Code: 0402; Inductance Tolerance: +/-5%; Q Factor: 8; Self Resonant Frequency: 1600MHz; Category: RF Inductors; Match Code: WE-MK; ComponentLink1Description: Website Link; ComponentLink1URL: https://www.we-online.com/redexpert/article/7447840127?ad; ComponentLink2Description: Datasheet Link; ComponentLink2URL: https://www.we-online.com/redexpert/spec/7447840127?ad; Mount: Surface Mount; Operating Temperature Max: 125°C; Operating Temperature Min: -55°C; Packaging: Tape and Reel; Length: 1mm; Width: 0.5mm; Height: 0.5mm; DC Resistance Max: 0.67Ohm; Inductance: 27nH; Rated Current: 0.3A
footprint WE-MK_0402_L1W0.5H0.5
simulation model 0402_7447840127_27n
pins: 1, 2

## 7447840127G
designator L?, comment 27nH  (value not drawn)
WE-MK Multilayer Ceramic SMT Inductor, size 0402, 27nH, 0.3A, 0.67Ohm; Manufacturer Part Number: 7447840127G; Manufacturer: Wurth Elektronik; Case/Size Code: 0402; Inductance Tolerance: +/-2%; Q Factor: 8; Self Resonant Frequency: 1600MHz; Category: RF Inductors; Match Code: WE-MK; ComponentLink1Description: Website Link; ComponentLink1URL: https://www.we-online.com/redexpert/article/7447840127G?ad; ComponentLink2Description: Datasheet Link; ComponentLink2URL: https://www.we-online.com/redexpert/spec/7447840127G?ad; Mount: Surface Mount; Operating Temperature Max: 125°C; Operating Temperature Min: -55°C; Packaging: Tape and Reel; Length: 1mm; Width: 0.5mm; Height: 0.5mm; DC Resistance Max: 0.67Ohm; Inductance: 27nH; Rated Current: 0.3A
footprint WE-MK_0402_L1W0.5H0.5
simulation model 0402_7447840127G_27n
pins: 1, 2

## 7447840133
designator L?, comment 33nH  (value not drawn)
WE-MK Multilayer Ceramic SMT Inductor, size 0402, 33nH, 0.2A, 0.67Ohm; Manufacturer Part Number: 7447840133; Manufacturer: Wurth Elektronik; Case/Size Code: 0402; Inductance Tolerance: +/-5%; Q Factor: 8; Self Resonant Frequency: 1500MHz; Category: RF Inductors; Match Code: WE-MK; ComponentLink1Description: Website Link; ComponentLink1URL: https://www.we-online.com/redexpert/article/7447840133?ad; ComponentLink2Description: Datasheet Link; ComponentLink2URL: https://www.we-online.com/redexpert/spec/7447840133?ad; Mount: Surface Mount; Operating Temperature Max: 125°C; Operating Temperature Min: -55°C; Packaging: Tape and Reel; Length: 1mm; Width: 0.5mm; Height: 0.5mm; DC Resistance Max: 0.67Ohm; Inductance: 33nH; Rated Current: 0.2A
footprint WE-MK_0402_L1W0.5H0.5
simulation model 0402_7447840133_33n
pins: 1, 2

## 7447840133G
designator L?, comment 33nH  (value not drawn)
WE-MK Multilayer Ceramic SMT Inductor, size 0402, 33nH, 0.2A, 0.67Ohm; Manufacturer Part Number: 7447840133G; Manufacturer: Wurth Elektronik; Case/Size Code: 0402; Inductance Tolerance: +/-2%; Q Factor: 8; Self Resonant Frequency: 1500MHz; Category: RF Inductors; Match Code: WE-MK; ComponentLink1Description: Website Link; ComponentLink1URL: https://www.we-online.com/redexpert/article/7447840133G?ad; ComponentLink2Description: Datasheet Link; ComponentLink2URL: https://www.we-online.com/redexpert/spec/7447840133G?ad; Mount: Surface Mount; Operating Temperature Max: 125°C; Operating Temperature Min: -55°C; Packaging: Tape and Reel; Length: 1mm; Width: 0.5mm; Height: 0.5mm; DC Resistance Max: 0.67Ohm; Inductance: 33nH; Rated Current: 0.2A
footprint WE-MK_0402_L1W0.5H0.5
simulation model 0402_7447840133G_33n
pins: 1, 2

## 7447840139
designator L?, comment 39nH  (value not drawn)
WE-MK Multilayer Ceramic SMT Inductor, size 0402, 39nH, 0.2A, 1.06Ohm; Manufacturer Part Number: 7447840139; Manufacturer: Wurth Elektronik; Case/Size Code: 0402; Inductance Tolerance: +/-5%; Q Factor: 8; Self Resonant Frequency: 1200MHz; Category: RF Inductors; Match Code: WE-MK; ComponentLink1Description: Website Link; ComponentLink1URL: https://www.we-online.com/redexpert/article/7447840139?ad; ComponentLink2Description: Datasheet Link; ComponentLink2URL: https://www.we-online.com/redexpert/spec/7447840139?ad; Mount: Surface Mount; Operating Temperature Max: 125°C; Operating Temperature Min: -55°C; Packaging: Tape and Reel; Length: 1mm; Width: 0.5mm; Height: 0.5mm; DC Resistance Max: 1.06Ohm; Inductance: 39nH; Rated Current: 0.2A
footprint WE-MK_0402_L1W0.5H0.5
simulation model 0402_7447840139_39n
pins: 1, 2

## 7447840139G
designator L?, comment 39nH  (value not drawn)
WE-MK Multilayer Ceramic SMT Inductor, size 0402, 39nH, 0.2A, 1.06Ohm; Manufacturer Part Number: 7447840139G; Manufacturer: Wurth Elektronik; Case/Size Code: 0402; Inductance Tolerance: +/-2%; Q Factor: 8; Self Resonant Frequency: 1200MHz; Category: RF Inductors; Match Code: WE-MK; ComponentLink1Description: Website Link; ComponentLink1URL: https://www.we-online.com/redexpert/article/7447840139G?ad; ComponentLink2Description: Datasheet Link; ComponentLink2URL: https://www.we-online.com/redexpert/spec/7447840139G?ad; Mount: Surface Mount; Operating Temperature Max: 125°C; Operating Temperature Min: -55°C; Packaging: Tape and Reel; Length: 1mm; Width: 0.5mm; Height: 0.5mm; DC Resistance Max: 1.06Ohm; Inductance: 39nH; Rated Current: 0.2A
footprint WE-MK_0402_L1W0.5H0.5
simulation model 0402_7447840139G_39n
pins: 1, 2

## 7447840147
designator L?, comment 47nH  (value not drawn)
WE-MK Multilayer Ceramic SMT Inductor, size 0402, 47nH, 0.2A, 1.15Ohm; Manufacturer Part Number: 7447840147; Manufacturer: Wurth Elektronik; Case/Size Code: 0402; Inductance Tolerance: +/-5%; Q Factor: 8; Self Resonant Frequency: 1000MHz; Category: RF Inductors; Match Code: WE-MK; ComponentLink1Description: Website Link; ComponentLink1URL: https://www.we-online.com/redexpert/article/7447840147?ad; ComponentLink2Description: Datasheet Link; ComponentLink2URL: https://www.we-online.com/redexpert/spec/7447840147?ad; Mount: Surface Mount; Operating Temperature Max: 125°C; Operating Temperature Min: -55°C; Packaging: Tape and Reel; Length: 1mm; Width: 0.5mm; Height: 0.5mm; DC Resistance Max: 1.15Ohm; Inductance: 47nH; Rated Current: 0.2A
footprint WE-MK_0402_L1W0.5H0.5
simulation model 0402_7447840147_47n
pins: 1, 2

## 7447840147G
designator L?, comment 47nH  (value not drawn)
WE-MK Multilayer Ceramic SMT Inductor, size 0402, 47nH, 0.2A, 1.15Ohm; Manufacturer Part Number: 7447840147G; Manufacturer: Wurth Elektronik; Case/Size Code: 0402; Inductance Tolerance: +/-2%; Q Factor: 8; Self Resonant Frequency: 1000MHz; Category: RF Inductors; Match Code: WE-MK; ComponentLink1Description: Website Link; ComponentLink1URL: https://www.we-online.com/redexpert/article/7447840147G?ad; ComponentLink2Description: Datasheet Link; ComponentLink2URL: https://www.we-online.com/redexpert/spec/7447840147G?ad; Mount: Surface Mount; Operating Temperature Max: 125°C; Operating Temperature Min: -55°C; Packaging: Tape and Reel; Length: 1mm; Width: 0.5mm; Height: 0.5mm; DC Resistance Max: 1.15Ohm; Inductance: 47nH; Rated Current: 0.2A
footprint WE-MK_0402_L1W0.5H0.5
simulation model 0402_7447840147G_47n
pins: 1, 2

## 7447840156
designator L?, comment 56nH  (value not drawn)
WE-MK Multilayer Ceramic SMT Inductor, size 0402, 56nH, 0.2A, 1.2Ohm; Manufacturer Part Number: 7447840156; Manufacturer: Wurth Elektronik; Case/Size Code: 0402; Inductance Tolerance: +/-5%; Q Factor: 8; Self Resonant Frequency: 800MHz; Category: RF Inductors; Match Code: WE-MK; ComponentLink1Description: Website Link; ComponentLink1URL: https://www.we-online.com/redexpert/article/7447840156?ad; ComponentLink2Description: Datasheet Link; ComponentLink2URL: https://www.we-online.com/redexpert/spec/7447840156?ad; Mount: Surface Mount; Operating Temperature Max: 125°C; Operating Temperature Min: -55°C; Packaging: Tape and Reel; Length: 1mm; Width: 0.5mm; Height: 0.5mm; DC Resistance Max: 1.2Ohm; Inductance: 56nH; Rated Current: 0.2A
footprint WE-MK_0402_L1W0.5H0.5
simulation model 0402_7447840156_56n
pins: 1, 2

## 7447840156G
designator L?, comment 56nH  (value not drawn)
WE-MK Multilayer Ceramic SMT Inductor, size 0402, 56nH, 0.2A, 1.2Ohm; Manufacturer Part Number: 7447840156G; Manufacturer: Wurth Elektronik; Case/Size Code: 0402; Inductance Tolerance: +/-2%; Q Factor: 8; Self Resonant Frequency: 800MHz; Category: RF Inductors; Match Code: WE-MK; ComponentLink1Description: Website Link; ComponentLink1URL: https://www.we-online.com/redexpert/article/7447840156G?ad; ComponentLink2Description: Datasheet Link; ComponentLink2URL: https://www.we-online.com/redexpert/spec/7447840156G?ad; Mount: Surface Mount; Operating Temperature Max: 125°C; Operating Temperature Min: -55°C; Packaging: Tape and Reel; Length: 1mm; Width: 0.5mm; Height: 0.5mm; DC Resistance Max: 1.2Ohm; Inductance: 56nH; Rated Current: 0.2A
footprint WE-MK_0402_L1W0.5H0.5
simulation model 0402_7447840156G_56n
pins: 1, 2

## 7447840168
designator L?, comment 68nH  (value not drawn)
WE-MK Multilayer Ceramic SMT Inductor, size 0402, 68nH, 0.18A, 1.25Ohm; Manufacturer Part Number: 7447840168; Manufacturer: Wurth Elektronik; Case/Size Code: 0402; Inductance Tolerance: +/-5%; Q Factor: 8; Self Resonant Frequency: 800MHz; Category: RF Inductors; Match Code: WE-MK; ComponentLink1Description: Website Link; ComponentLink1URL: https://www.we-online.com/redexpert/article/7447840168?ad; ComponentLink2Description: Datasheet Link; ComponentLink2URL: https://www.we-online.com/redexpert/spec/7447840168?ad; Mount: Surface Mount; Operating Temperature Max: 125°C; Operating Temperature Min: -55°C; Packaging: Tape and Reel; Length: 1mm; Width: 0.5mm; Height: 0.5mm; DC Resistance Max: 1.25Ohm; Inductance: 68nH; Rated Current: 0.18A
footprint WE-MK_0402_L1W0.5H0.5
simulation model 0402_7447840168_68n
pins: 1, 2

## 7447840168G
designator L?, comment 68nH  (value not drawn)
WE-MK Multilayer Ceramic SMT Inductor, size 0402, 68nH, 0.18A, 1.25Ohm; Manufacturer Part Number: 7447840168G; Manufacturer: Wurth Elektronik; Case/Size Code: 0402; Inductance Tolerance: +/-2%; Q Factor: 8; Self Resonant Frequency: 800MHz; Category: RF Inductors; Match Code: WE-MK; ComponentLink1Description: Website Link; ComponentLink1URL: https://www.we-online.com/redexpert/article/7447840168G?ad; ComponentLink2Description: Datasheet Link; ComponentLink2URL: https://www.we-online.com/redexpert/spec/7447840168G?ad; Mount: Surface Mount; Operating Temperature Max: 125°C; Operating Temperature Min: -55°C; Packaging: Tape and Reel; Length: 1mm; Width: 0.5mm; Height: 0.5mm; DC Resistance Max: 1.25Ohm; Inductance: 68nH; Rated Current: 0.18A
footprint WE-MK_0402_L1W0.5H0.5
simulation model 0402_7447840168G_68n
pins: 1, 2

## 7447840182
designator L?, comment 82nH  (value not drawn)
WE-MK Multilayer Ceramic SMT Inductor, size 0402, 82nH, 0.15A, 1.6Ohm; Manufacturer Part Number: 7447840182; Manufacturer: Wurth Elektronik; Case/Size Code: 0402; Inductance Tolerance: +/-5%; Q Factor: 8; Self Resonant Frequency: 600MHz; Category: RF Inductors; Match Code: WE-MK; ComponentLink1Description: Website Link; ComponentLink1URL: https://www.we-online.com/redexpert/article/7447840182?ad; ComponentLink2Description: Datasheet Link; ComponentLink2URL: https://www.we-online.com/redexpert/spec/7447840182?ad; Mount: Surface Mount; Operating Temperature Max: 125°C; Operating Temperature Min: -55°C; Packaging: Tape and Reel; Length: 1mm; Width: 0.5mm; Height: 0.5mm; DC Resistance Max: 1.6Ohm; Inductance: 82nH; Rated Current: 0.15A
footprint WE-MK_0402_L1W0.5H0.5
simulation model 0402_7447840182_82n
pins: 1, 2

## 7447840182G
designator L?, comment 82nH  (value not drawn)
WE-MK Multilayer Ceramic SMT Inductor, size 0402, 82nH, 0.15A, 1.6Ohm; Manufacturer Part Number: 7447840182G; Manufacturer: Wurth Elektronik; Case/Size Code: 0402; Inductance Tolerance: +/-2%; Q Factor: 8; Self Resonant Frequency: 600MHz; Category: RF Inductors; Match Code: WE-MK; ComponentLink1Description: Website Link; ComponentLink1URL: https://www.we-online.com/redexpert/article/7447840182G?ad; ComponentLink2Description: Datasheet Link; ComponentLink2URL: https://www.we-online.com/redexpert/spec/7447840182G?ad; Mount: Surface Mount; Operating Temperature Max: 125°C; Operating Temperature Min: -55°C; Packaging: Tape and Reel; Length: 1mm; Width: 0.5mm; Height: 0.5mm; DC Resistance Max: 1.6Ohm; Inductance: 82nH; Rated Current: 0.15A
footprint WE-MK_0402_L1W0.5H0.5
simulation model 0402_7447840182G_82n
pins: 1, 2

## 7447840210
designator L?, comment 100nH  (value not drawn)
WE-MK Multilayer Ceramic SMT Inductor, size 0402, 100nH, 0.15A, 1.6Ohm; Manufacturer Part Number: 7447840210; Manufacturer: Wurth Elektronik; Case/Size Code: 0402; Inductance Tolerance: +/-5%; Q Factor: 8; Self Resonant Frequency: 600MHz; Category: RF Inductors; Match Code: WE-MK; ComponentLink1Description: Website Link; ComponentLink1URL: https://www.we-online.com/redexpert/article/7447840210?ad; ComponentLink2Description: Datasheet Link; ComponentLink2URL: https://www.we-online.com/redexpert/spec/7447840210?ad; Mount: Surface Mount; Operating Temperature Max: 125°C; Operating Temperature Min: -55°C; Packaging: Tape and Reel; Length: 1mm; Width: 0.5mm; Height: 0.5mm; DC Resistance Max: 1.6Ohm; Inductance: 100nH; Rated Current: 0.15A
footprint WE-MK_0402_L1W0.5H0.5
simulation model 0402_7447840210_100n
pins: 1, 2